# EAGLE library part RMF02 (library selfmade)
HOPE RF RMF02 Sender, erhältlich bei Pollin
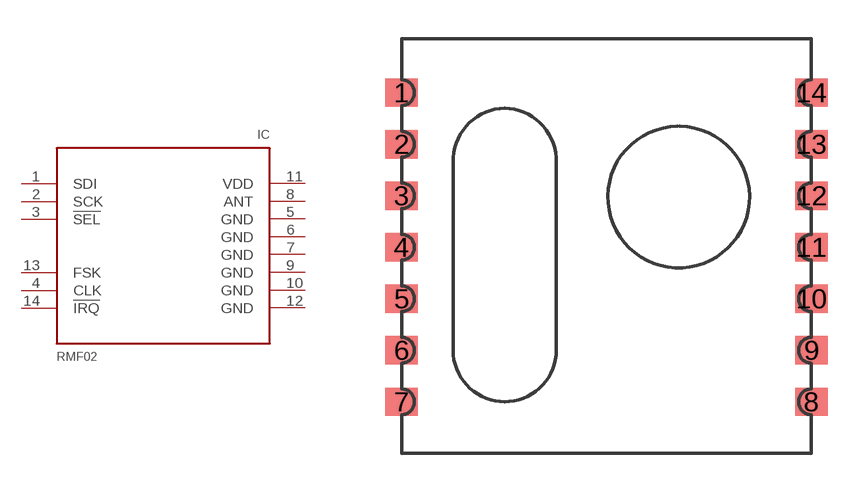
[diagram p1: symbol with the pads of RMF*-S; footprint RMF*-S]

Designator prefix IC

## RMF02  [RMF*-S]
1  SDI  in
2  SCK  in
3  !SEL  in
4  CLK  out
5  GND  sup
6  GND  sup
7  GND  sup
8  ANT  out
9  GND  sup
10  GND  sup
11  VDD  sup
12  GND  sup
13  FSK  in
14  !IRQ  out

## Footprint RMF*-S (pad centres in mm)
HOPE RF Module erhältlich bei Pollin: RMF01 (nur Empfänger) RMF02 (nur Sender) RMF12 (Sender u. Empfänger)
smd 1.27 x 1.1: 1 0,14; 2 0,12; 3 0,10; 4 0,8; 5 0,6; 6 0,4; 7 0,2; 8 15.9,2; 9 15.9,4; 10 15.9,6; 11 15.9,8; 12 15.9,10; 13 15.9,12; 14 15.9,14